# Altium footprint library Connector_PinHeader_2.54mm.PcbLib: 10 footprints
Each footprint in its own frame and in the unit in brackets; x right, y up, seen from the top. Pads: shape width x height; smd on the part's side, far side on the other; paste and mask are expansions set on the pad; w line width, h text height; cw(c..) or ccw(c..) is an arc to the next point about the centre after c.
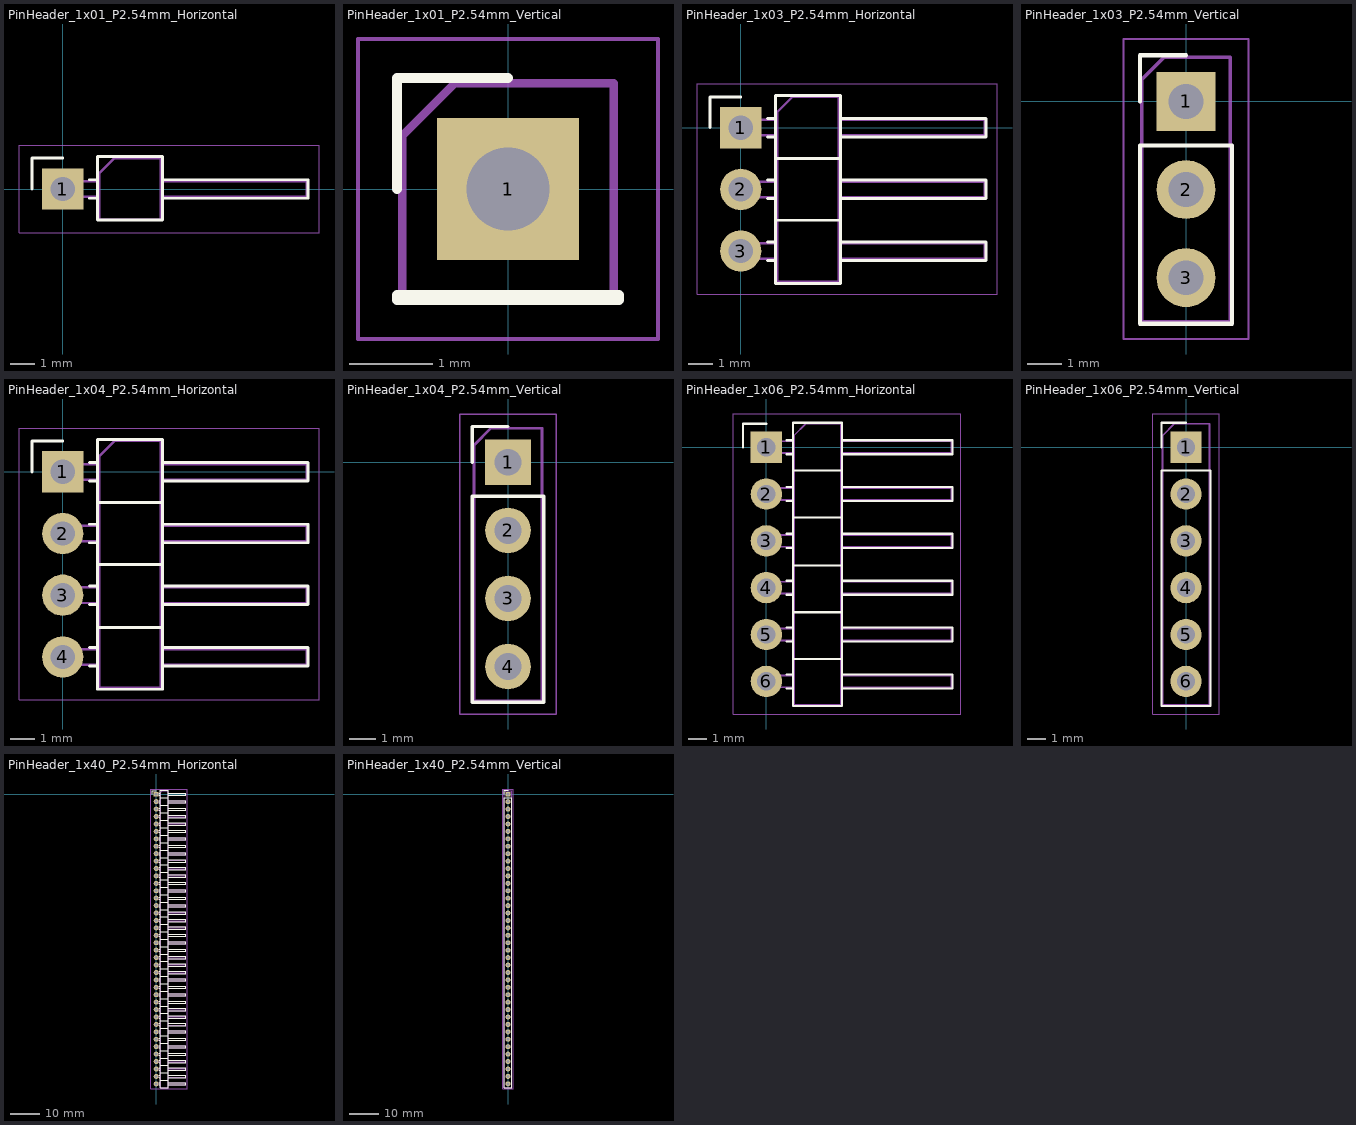
[diagram p0: the footprints below, top view; thin cyan lines are the x and y axes]

## PinHeader_1x01_P2.54mm_Horizontal [mm]
pads (1):
  rect 1.7x1.7 hole 1: 1(0,0)
Top Overlay:
  lines w0.12: -1.27,0 -1.27,1.27 0,1.27 ; 1.11,-0.38 1.44,-0.38 ; 1.11,0.38 1.44,0.38 ; 4.1,-0.38 10.1,-0.38 10.1,0.38 4.1,0.38 ; 1.44,-1.27 1.44,1.33 4.1,1.33 4.1,-1.27 1.44,-1.27
Mechanical 13:
  lines w0.1: 1.5,-0.32 -0.32,-0.32 -0.32,0.32 1.5,0.32 ; 4.04,-0.32 10.04,-0.32 10.04,0.32 4.04,0.32 ; 1.5,-1.27 1.5,0.635 2.135,1.27 4.04,1.27 4.04,-1.27 1.5,-1.27
Mechanical 15:
  lines w0.05: -1.8,-1.8 -1.8,1.8 10.55,1.8 10.55,-1.8 -1.8,-1.8
3D body "PinHeader_1x01_P2.54mm_Horizontal.step": height 2.54, standoff -3, extent -0.32,-1.27 10.04,1.27

## PinHeader_1x01_P2.54mm_Vertical [mm]
pads (1):
  rect 1.7x1.7 hole 1: 1(0,0)
Top Overlay:
  lines w0.12: -1.33,0 -1.33,1.33 0,1.33 ; -1.33,-1.33 1.33,-1.33 1.33,-1.27 -1.33,-1.27 -1.33,-1.33
Mechanical 13:
  lines w0.1: -1.27,-1.27 -1.27,0.635 -0.635,1.27 1.27,1.27 1.27,-1.27 -1.27,-1.27
Mechanical 15:
  lines w0.05: -1.8,-1.8 1.8,-1.8 1.8,1.8 -1.8,1.8 -1.8,-1.8
3D body "PinHeader_1x01_P2.54mm_Vertical.step": height 8.54, standoff -3, extent -1.27,-1.27 1.27,1.27

## PinHeader_1x03_P2.54mm_Horizontal [mm]
pads (3):
  rect 1.7x1.7 hole 1: 1(0,0)
  round 1.7 hole 1: 2(0,-2.54) 3(0,-5.08)
Top Overlay:
  lines w0.12: -1.27,0 -1.27,1.27 0,1.27 ; 1.11,-5.46 1.44,-5.46 ; 1.11,-4.7 1.44,-4.7 ; 1.11,-2.92 1.44,-2.92 ; 1.11,-2.16 1.44,-2.16 ; 1.11,-0.38 1.44,-0.38 ; 1.11,0.38 1.44,0.38 ; 1.44,-3.81 4.1,-3.81 ; 1.44,-1.27 4.1,-1.27 ; 4.1,-5.46 10.1,-5.46 10.1,-4.7 4.1,-4.7 ; 4.1,-2.92 10.1,-2.92 10.1,-2.16 4.1,-2.16 ; 4.1,-0.38 10.1,-0.38 10.1,0.38 4.1,0.38 ; 1.44,-6.41 4.1,-6.41 4.1,1.33 1.44,1.33 1.44,-6.41
Mechanical 13:
  lines w0.1: 1.5,-5.4 -0.32,-5.4 -0.32,-4.76 1.5,-4.76 ; 1.5,-2.86 -0.32,-2.86 -0.32,-2.22 1.5,-2.22 ; 1.5,-0.32 -0.32,-0.32 -0.32,0.32 1.5,0.32 ; 4.04,-5.4 10.04,-5.4 10.04,-4.76 4.04,-4.76 ; 4.04,-2.86 10.04,-2.86 10.04,-2.22 4.04,-2.22 ; 4.04,-0.32 10.04,-0.32 10.04,0.32 4.04,0.32 ; 1.5,-6.35 4.04,-6.35 4.04,1.27 2.135,1.27 1.5,0.635 1.5,-6.35
Mechanical 15:
  lines w0.05: -1.8,-6.85 10.55,-6.85 10.55,1.8 -1.8,1.8 -1.8,-6.85
3D body "PinHeader_1x03_P2.54mm_Horizontal.step": height 2.54, standoff -3, extent -0.32,-6.35 10.04,1.27

## PinHeader_1x03_P2.54mm_Vertical [mm]
pads (3):
  rect 1.7x1.7 hole 1: 1(0,0)
  round 1.7 hole 1: 2(0,-2.54) 3(0,-5.08)
Top Overlay:
  lines w0.12: -1.33,0 -1.33,1.33 0,1.33 ; -1.33,-6.41 1.33,-6.41 1.33,-1.27 -1.33,-1.27 -1.33,-6.41
Mechanical 13:
  lines w0.1: -1.27,-6.35 1.27,-6.35 1.27,1.27 -0.635,1.27 -1.27,0.635 -1.27,-6.35
Mechanical 15:
  lines w0.05: -1.8,-6.85 -1.8,1.8 1.8,1.8 1.8,-6.85 -1.8,-6.85
3D body "PinHeader_1x03_P2.54mm_Vertical.step": height 8.54, standoff -3, extent -1.27,-6.35 1.27,1.27

## PinHeader_1x04_P2.54mm_Horizontal [mm]
pads (4):
  rect 1.7x1.7 hole 1: 1(0,0)
  round 1.7 hole 1: 2(0,-2.54) 3(0,-5.08) 4(0,-7.62)
Top Overlay:
  lines w0.12: -1.27,0 -1.27,1.27 0,1.27 ; 1.11,-8 1.44,-8 ; 1.11,-7.24 1.44,-7.24 ; 1.11,-5.46 1.44,-5.46 ; 1.11,-4.7 1.44,-4.7 ; 1.11,-2.92 1.44,-2.92 ; 1.11,-2.16 1.44,-2.16 ; 1.11,-0.38 1.44,-0.38 ; 1.11,0.38 1.44,0.38 ; 1.44,-6.41 4.1,-6.41 ; 1.44,-3.81 4.1,-3.81 ; 1.44,-1.27 4.1,-1.27 ; 4.1,-8 10.1,-8 10.1,-7.24 4.1,-7.24 ; 4.1,-5.46 10.1,-5.46 10.1,-4.7 4.1,-4.7 ; 4.1,-2.92 10.1,-2.92 10.1,-2.16 4.1,-2.16 ; 4.1,-0.38 10.1,-0.38 10.1,0.38 4.1,0.38 ; 1.44,-8.95 4.1,-8.95 4.1,1.33 1.44,1.33 1.44,-8.95
Mechanical 13:
  lines w0.1: 1.5,-7.94 -0.32,-7.94 -0.32,-7.3 1.5,-7.3 ; 1.5,-5.4 -0.32,-5.4 -0.32,-4.76 1.5,-4.76 ; 1.5,-2.86 -0.32,-2.86 -0.32,-2.22 1.5,-2.22 ; 1.5,-0.32 -0.32,-0.32 -0.32,0.32 1.5,0.32 ; 4.04,-7.94 10.04,-7.94 10.04,-7.3 4.04,-7.3 ; 4.04,-5.4 10.04,-5.4 10.04,-4.76 4.04,-4.76 ; 4.04,-2.86 10.04,-2.86 10.04,-2.22 4.04,-2.22 ; 4.04,-0.32 10.04,-0.32 10.04,0.32 4.04,0.32 ; 1.5,-8.89 1.5,0.635 2.135,1.27 4.04,1.27 4.04,-8.89 1.5,-8.89
Mechanical 15:
  lines w0.05: -1.8,-9.39 -1.8,1.8 10.55,1.8 10.55,-9.39 -1.8,-9.39
3D body "PinHeader_1x04_P2.54mm_Horizontal.step": height 2.54, standoff -3, extent -0.32,-8.89 10.04,1.27

## PinHeader_1x04_P2.54mm_Vertical [mm]
pads (4):
  rect 1.7x1.7 hole 1: 1(0,0)
  round 1.7 hole 1: 2(0,-2.54) 3(0,-5.08) 4(0,-7.62)
Top Overlay:
  lines w0.12: -1.33,0 -1.33,1.33 0,1.33 ; -1.33,-8.95 -1.33,-1.27 1.33,-1.27 1.33,-8.95 -1.33,-8.95
Mechanical 13:
  lines w0.1: -1.27,-8.89 -1.27,0.635 -0.635,1.27 1.27,1.27 1.27,-8.89 -1.27,-8.89
Mechanical 15:
  lines w0.05: -1.8,-9.39 1.8,-9.39 1.8,1.8 -1.8,1.8 -1.8,-9.39
3D body "PinHeader_1x04_P2.54mm_Vertical.step": height 8.54, standoff -3, extent -1.27,-8.89 1.27,1.27

## PinHeader_1x06_P2.54mm_Horizontal [mm]
pads (6):
  rect 1.7x1.7 hole 1: 1(0,0)
  round 1.7 hole 1: 2(0,-2.54) 3(0,-5.08) 4(0,-7.62) 5(0,-10.16) 6(0,-12.7)
Top Overlay:
  lines w0.12: -1.27,0 -1.27,1.27 0,1.27 ; 1.11,-13.08 1.44,-13.08 ; 1.11,-12.32 1.44,-12.32 ; 1.11,-10.54 1.44,-10.54 ; 1.11,-9.78 1.44,-9.78 ; 1.11,-8 1.44,-8 ; 1.11,-7.24 1.44,-7.24 ; 1.11,-5.46 1.44,-5.46 ; 1.11,-4.7 1.44,-4.7 ; 1.11,-2.92 1.44,-2.92 ; 1.11,-2.16 1.44,-2.16 ; 1.11,-0.38 1.44,-0.38 ; 1.11,0.38 1.44,0.38 ; 1.44,-11.49 4.1,-11.49 ; 1.44,-8.95 4.1,-8.95 ; 1.44,-6.41 4.1,-6.41 ; 1.44,-3.81 4.1,-3.81 ; 1.44,-1.27 4.1,-1.27 ; 4.1,-13.08 10.1,-13.08 10.1,-12.32 4.1,-12.32 ; 4.1,-10.54 10.1,-10.54 10.1,-9.78 4.1,-9.78 ; 4.1,-8 10.1,-8 10.1,-7.24 4.1,-7.24 ; 4.1,-5.46 10.1,-5.46 10.1,-4.7 4.1,-4.7 ; 4.1,-2.92 10.1,-2.92 10.1,-2.16 4.1,-2.16 ; 4.1,-0.38 10.1,-0.38 10.1,0.38 4.1,0.38 ; 1.44,-14.03 4.1,-14.03 4.1,1.33 1.44,1.33 1.44,-14.03
Mechanical 13:
  lines w0.1: 1.5,-13.02 -0.32,-13.02 -0.32,-12.38 1.5,-12.38 ; 1.5,-10.48 -0.32,-10.48 -0.32,-9.84 1.5,-9.84 ; 1.5,-7.94 -0.32,-7.94 -0.32,-7.3 1.5,-7.3 ; 1.5,-5.4 -0.32,-5.4 -0.32,-4.76 1.5,-4.76 ; 1.5,-2.86 -0.32,-2.86 -0.32,-2.22 1.5,-2.22 ; 1.5,-0.32 -0.32,-0.32 -0.32,0.32 1.5,0.32 ; 4.04,-13.02 10.04,-13.02 10.04,-12.38 4.04,-12.38 ; 4.04,-10.48 10.04,-10.48 10.04,-9.84 4.04,-9.84 ; 4.04,-7.94 10.04,-7.94 10.04,-7.3 4.04,-7.3 ; 4.04,-5.4 10.04,-5.4 10.04,-4.76 4.04,-4.76 ; 4.04,-2.86 10.04,-2.86 10.04,-2.22 4.04,-2.22 ; 4.04,-0.32 10.04,-0.32 10.04,0.32 4.04,0.32 ; 1.5,-13.97 4.04,-13.97 4.04,1.27 2.135,1.27 1.5,0.635 1.5,-13.97
Mechanical 15:
  lines w0.05: -1.8,-14.47 10.55,-14.47 10.55,1.8 -1.8,1.8 -1.8,-14.47
3D body "PinHeader_1x06_P2.54mm_Horizontal.step": height 2.54, standoff -3, extent -0.32,-13.97 10.04,1.27

## PinHeader_1x06_P2.54mm_Vertical [mm]
pads (6):
  rect 1.7x1.7 hole 1: 1(0,0)
  round 1.7 hole 1: 2(0,-2.54) 3(0,-5.08) 4(0,-7.62) 5(0,-10.16) 6(0,-12.7)
Top Overlay:
  lines w0.12: -1.33,0 -1.33,1.33 0,1.33 ; -1.33,-14.03 -1.33,-1.27 1.33,-1.27 1.33,-14.03 -1.33,-14.03
Mechanical 13:
  lines w0.1: -1.27,-13.97 -1.27,0.635 -0.635,1.27 1.27,1.27 1.27,-13.97 -1.27,-13.97
Mechanical 15:
  lines w0.05: -1.8,-14.47 1.8,-14.47 1.8,1.8 -1.8,1.8 -1.8,-14.47
3D body "PinHeader_1x06_P2.54mm_Vertical.step": height 8.54, standoff -3, extent -1.27,-13.97 1.27,1.27

## PinHeader_1x40_P2.54mm_Horizontal [mm]
pads (40):
  rect 1.7x1.7 hole 1: 1(0,0)
  round 1.7 hole 1: 2(0,-2.54) 3(0,-5.08) 4(0,-7.62) 5(0,-10.16) 6(0,-12.7) 7(0,-15.24) 8(0,-17.78) 9(0,-20.32) 10(0,-22.86) 11(0,-25.4) 12(0,-27.94) 13(0,-30.48) 14(0,-33.02) 15(0,-35.56) 16(0,-38.1) 17(0,-40.64) 18(0,-43.18) 19(0,-45.72) 20(0,-48.26) 21(0,-50.8) 22(0,-53.34) 23(0,-55.88) 24(0,-58.42) 25(0,-60.96) 26(0,-63.5) 27(0,-66.04) 28(0,-68.58) 29(0,-71.12) 30(0,-73.66) 31(0,-76.2) 32(0,-78.74) 33(0,-81.28) 34(0,-83.82) 35(0,-86.36) 36(0,-88.9) 37(0,-91.44) 38(0,-93.98) 39(0,-96.52) 40(0,-99.06)
Top Overlay:
  drawing of 245 lines, arcs and shapes, not listed
Mechanical 13:
  drawing of 245 lines, arcs and shapes, not listed
Mechanical 15:
  lines w0.05: -1.8,-100.83 -1.8,1.8 10.55,1.8 10.55,-100.83 -1.8,-100.83
3D body "PinHeader_1x40_P2.54mm_Horizontal.step": height 2.54, standoff -3, extent -0.32,-100.33 10.04,1.27

## PinHeader_1x40_P2.54mm_Vertical [mm]
pads (40):
  rect 1.7x1.7 hole 1: 1(0,0)
  round 1.7 hole 1: 2(0,-2.54) 3(0,-5.08) 4(0,-7.62) 5(0,-10.16) 6(0,-12.7) 7(0,-15.24) 8(0,-17.78) 9(0,-20.32) 10(0,-22.86) 11(0,-25.4) 12(0,-27.94) 13(0,-30.48) 14(0,-33.02) 15(0,-35.56) 16(0,-38.1) 17(0,-40.64) 18(0,-43.18) 19(0,-45.72) 20(0,-48.26) 21(0,-50.8) 22(0,-53.34) 23(0,-55.88) 24(0,-58.42) 25(0,-60.96) 26(0,-63.5) 27(0,-66.04) 28(0,-68.58) 29(0,-71.12) 30(0,-73.66) 31(0,-76.2) 32(0,-78.74) 33(0,-81.28) 34(0,-83.82) 35(0,-86.36) 36(0,-88.9) 37(0,-91.44) 38(0,-93.98) 39(0,-96.52) 40(0,-99.06)
Top Overlay:
  lines w0.12: -1.33,0 -1.33,1.33 0,1.33 ; -1.33,-100.39 -1.33,-1.27 1.33,-1.27 1.33,-100.39 -1.33,-100.39
Mechanical 13:
  lines w0.1: -1.27,-100.33 -1.27,0.635 -0.635,1.27 1.27,1.27 1.27,-100.33 -1.27,-100.33
Mechanical 15:
  lines w0.05: -1.8,-100.83 1.8,-100.83 1.8,1.8 -1.8,1.8 -1.8,-100.83
3D body "PinHeader_1x40_P2.54mm_Vertical.step": height 8.54, standoff -3, extent -1.27,-100.33 1.27,1.27